# Altium schematic symbol library BSC026NE2LS5.Schlib: 1 symbol
Pins are listed as number, name and electrical type; pins without a type are passive.

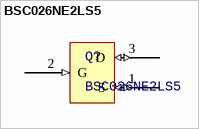
[diagram p0: symbol BSC026NE2LS5]

## BSC026NE2LS5
designator Q?
MOSFET
footprint INF-PG-TDSON-8-1_V (TDSON, 8-Leads, Body 6.15x5.15mm, Pitch 1.27mm)
pins: 1 S (io), 2 G (in), 3 D (io)